# EAGLE library part TC1121 (library FaBo-Supply)
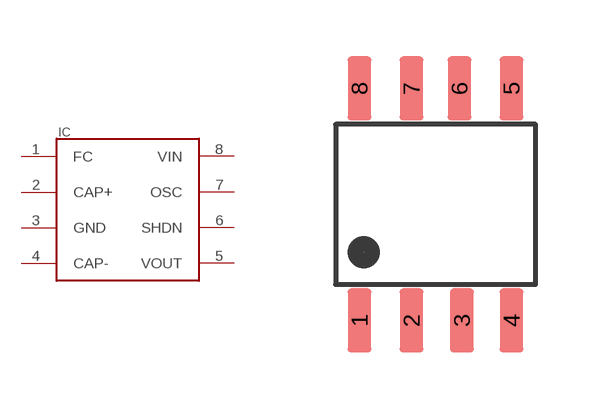
[diagram p12: symbol with the pads of SOIC-8; footprint SOIC-8]

Designator prefix IC

## TC1121  [SOIC-8]
1  FC
2  CAP+
3  GND
4  CAP-
5  VOUT
6  SHDN
7  OSC
8  VIN

## Footprint SOIC-8 (pad centres in mm)
smd 0.6 x 1.6: 1 -1.9,-2.9; 2 -0.6,-2.9; 3 0.66,-2.9; 4 1.9,-2.9; 5 1.9,2.9; 6 0.6,2.9; 7 -0.6,2.9; 8 -1.9,2.9